# Altium footprint library AXE526124.PcbLib: 2 footprints
Each footprint in its own frame and in the unit in brackets; x right, y up, seen from the top. Pads: shape width x height; smd on the part's side, far side on the other; paste and mask are expansions set on the pad; w line width, h text height; cw(c..) or ccw(c..) is an arc to the next point about the centre after c.
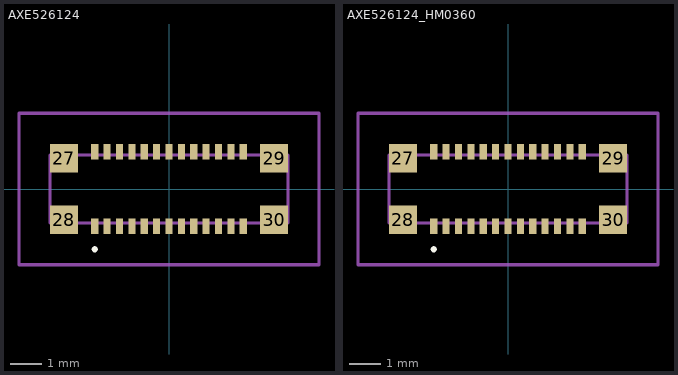
[diagram p0: the footprints below, top view; thin cyan lines are the x and y axes]

## AXE526124 [mm]
pads (30):
  rect 0.23x0.5 smd: 1(-2.4,-1.2) 2(-2.4,1.2) 3(-2,-1.2) 4(-2,1.2) 5(-1.6,-1.2) 6(-1.6,1.2) 7(-1.2,-1.2) 8(-1.2,1.2) 9(-0.8,-1.2) 10(-0.8,1.2) 11(-0.4,-1.2) 12(-0.4,1.2) 13(0,-1.2) 14(0,1.2) 15(0.4,-1.2) 16(0.4,1.2) 17(0.8,-1.2) 18(0.8,1.2) 19(1.2,-1.2) 20(1.2,1.2) 21(1.6,-1.2) 22(1.6,1.2) 23(2,-1.2) 24(2,1.2) 25(2.4,-1.2) 26(2.4,1.2)
  rect 0.9x0.92 smd: 27(-3.4,0.99) 28(-3.4,-0.99) 29(3.4,0.99) 30(3.4,-0.99)
Top Overlay:
  lines w0.1: -2.4,-2 cw(c-2.4,-1.95) -2.4,-1.9 cw(c-2.4,-1.95) -2.4,-2
Mechanical 15:
  lines w0.1: -3.85,-1.1 -3.85,1.1 3.85,1.1 3.85,-1.1 -3.85,-1.1
Mechanical 20:
  lines w0.1: -4.85,-2.45 -4.85,2.45 4.85,2.45 4.85,-2.45 -4.85,-2.45
3D body "AXE526124.stp": height 1.07, standoff 0, extent -3.85,-1.427 3.85,1.427

## AXE526124_HM0360 [mm]
pads (30):
  rect 0.23x0.5 smd: 1(-2.4,-1.2) 2(-2,-1.2) 3(-1.6,-1.2) 4(-1.2,-1.2) 5(-0.8,-1.2) 6(-0.4,-1.2) 7(0,-1.2) 8(0.4,-1.2) 9(0.8,-1.2) 10(1.2,-1.2) 11(1.6,-1.2) 12(2,-1.2) 13(2.4,-1.2) 14(2.4,1.2) 15(2,1.2) 16(1.6,1.2) 17(1.2,1.2) 18(0.8,1.2) 19(0.4,1.2) 20(0,1.2) 21(-0.4,1.2) 22(-0.8,1.2) 23(-1.2,1.2) 24(-1.6,1.2) 25(-2,1.2) 26(-2.4,1.2)
  rect 0.9x0.92 smd: 27(-3.4,0.99) 28(-3.4,-0.99) 29(3.4,0.99) 30(3.4,-0.99)
Top Overlay:
  lines w0.1: -2.4,-2 cw(c-2.4,-1.95) -2.4,-1.9 cw(c-2.4,-1.95) -2.4,-2
Mechanical 15:
  lines w0.1: -3.85,-1.1 -3.85,1.1 3.85,1.1 3.85,-1.1 -3.85,-1.1
Mechanical 20:
  lines w0.1: -4.85,-2.45 -4.85,2.45 4.85,2.45 4.85,-2.45 -4.85,-2.45
3D body "AXE526124.stp": height 1.07, standoff 0, extent -3.85,-1.427 3.85,1.427